# Altium schematic symbol library B105analog_ic.SchLib: 89 symbols
Pins are listed as number, name and electrical type; pins without a type are passive.

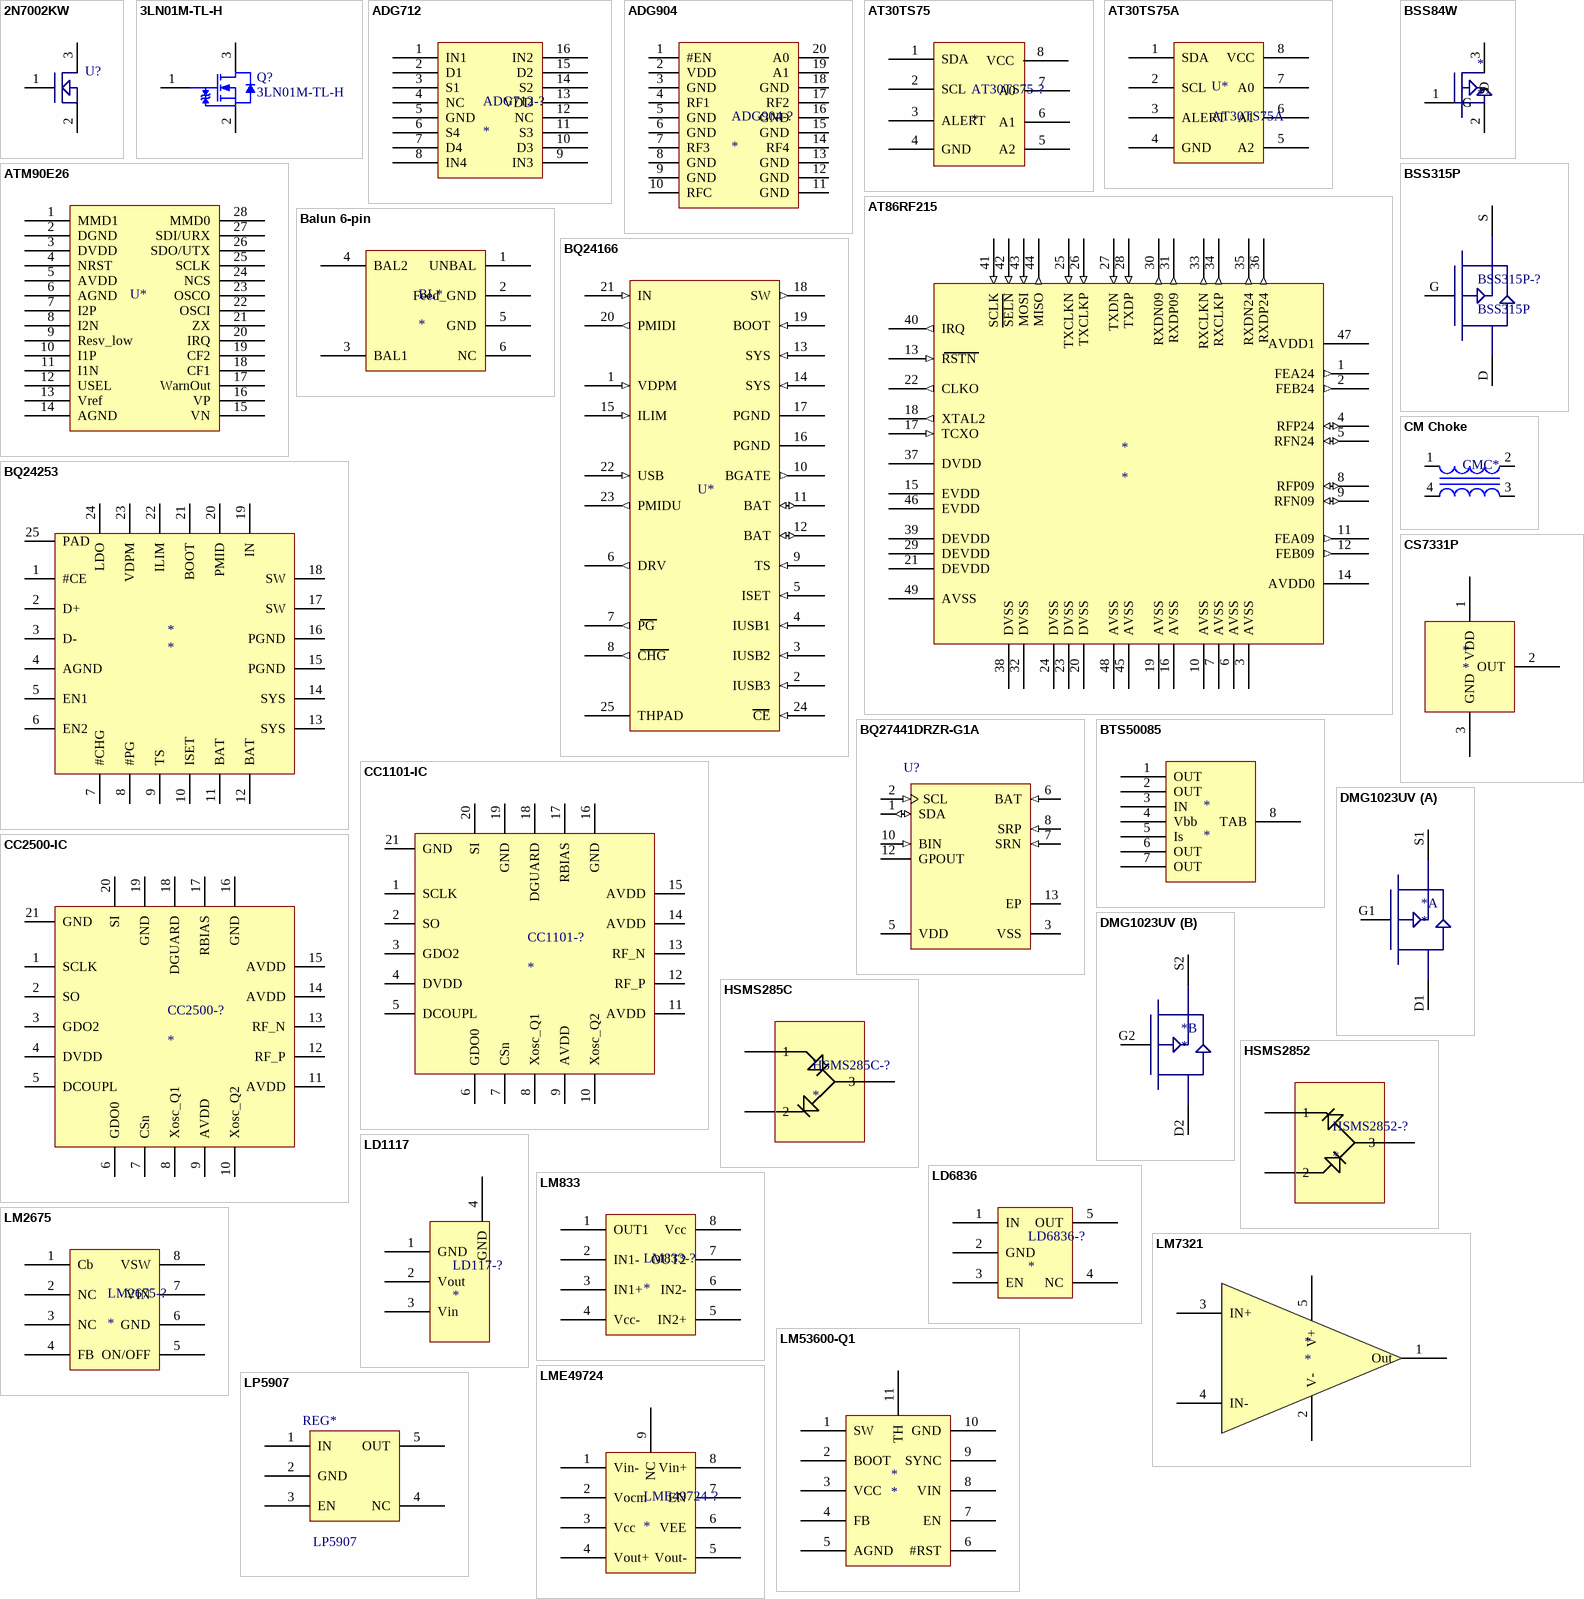
[diagram p0: symbols 2N7002KW to LP5907]

## 2N7002KW
designator U?  (value not drawn)
footprint SOT-23-3 (SOT23, 3-Leads, Body 2,93x2,80mm, Pitch 0,95mm, IPC Medium Density)
footprint SOT-323-3-SC70 (TSOP, 3-Leads, Body 2,03x1,25mm, Pitch 0,65mm, IPC Medium Density)
pins: 1 G, 2 S, 3 D

## 3LN01M-TL-H
designator Q?
MOSFET N-CH 30V 150MA MCP; Manufacturer: ON Semiconductor; FET Type: MOSFET N-Channel, Metal Oxide; FET Feature: Logic Level Gate, 1.5V Drive; Current - Continuous Drain (Id) @ 25°C: 150mA (Ta); Rds On (Max) @ Id, Vgs: 3.7 Ohm @ 80mA, 4V; Gate Charge (Qg) @ Vgs: 1.58nC @ 10V; Input Capacitance (Ciss) @ Vds: 7pF @ 10V; Power - Max: 150mW; Supplier 1: Digi-Key; Supplier Part Number 1: 3LN01M-TL-HOSCT-ND; Manufacturer Part Number: 3LN01M-TL-H; RoHS: RoHS Compliant; Category: Discrete Semiconductor Products; Packaging: Cut Tape (CT); Part Status: Active; Drain to Source Voltage (Vdss): 30V; Vgs(th) (Max) @ Id: -; Operating Temperature: 150°C (TJ); Mounting Type: Surface Mount; Package / Case: SC-70, SOT-323; Supplier Device Package: SC-70 / MCPH3; ComponentLink1URL: http://www.onsemi.com/PowerSolutions/product.do?id=3LN01M&pdf; ComponentLink1Description: http://www.onsemi.com/PowerSolutions/product.do?id=3LN01M&pdf; Supplier 2: Mouser; Supplier Part Number 2: 863-3LN01M-TL-H
footprint SOT323-3L (SOT23, 3-Leads, Body 2x1.25mm, Pitch 0.65mm)
pins: 1 G, 2 S, 3 D

## ADG712
designator ADG712-?
footprint TSSOP-16 (TSOP, 16-Leads, Body 5,00x4,40mm, Pitch 0,65mm, IPC Medium Density)
pins: 1 IN1, 2 D1, 3 S1, 4 NC, 5 GND, 6 S4, 7 D4, 8 IN4, 9 IN3, 10 D3, 11 S3, 12 NC, 13 VDD, 14 S2, 15 D2, 16 IN2

## ADG904
designator ADG904-?
footprint TSSOP-20 (TSOP, 20-Leads, Body 6,50x4,40mm, Pitch 0,65mm, IPC Medium Density)
pins: 1 #EN, 2 VDD, 3 GND, 4 RF1, 5 GND, 6 GND, 7 RF3, 8 GND, 9 GND, 10 RFC, 11 GND, 12 GND, 13 GND, 14 RF4, 15 GND, 16 GND, 17 RF2, 18 GND, 19 A1, 20 A0

## AT30TS75
designator AT30TS75-?
footprint MSOP-8 (TSOP, 8-Leads, Body 3,00x3,00mm, Pitch 0,65mm, IPC Medium Density)
pins: 1 SDA, 2 SCL, 3 ALERT, 4 GND, 5 A2, 6 A1, 7 A0, 8 VCC

## AT30TS75A
designator U*
footprint MSOP-8 (TSOP, 8-Leads, Body 3,00x3,00mm, Pitch 0,65mm, IPC Medium Density)
pins: 1 SDA, 2 SCL, 3 ALERT, 4 GND, 5 A2, 6 A1, 7 A0, 8 VCC

## AT86RF215
designator *
footprint QFN-48 (QFN, 48-Leads, Body 7,00x7,00mm, Pitch 0,50mm, Thermal Pad 5,60x5,60mm, IPC Medium Density)
pins: 1 FEA24 (out), 2 FEB24 (out), 3 AVSS, 4 RFP24 (io), 5 RFN24 (io), 6 AVSS, 7 AVSS, 8 RFP09 (io), 9 RFN09 (io), 10 AVSS, 11 FEA09 (out), 12 FEB09 (out), 13 RSTN (in), 14 AVDD0, 15 EVDD, 16 AVSS, 17 TCXO (in), 18 XTAL2 (out), 19 AVSS, 20 DVSS, 21 DEVDD, 22 CLKO (out), 23 DVSS, 24 DVSS, 25 TXCLKN (in), 26 TXCLKP (in), 27 TXDN (in), 28 TXDP (in), 29 DEVDD, 30 RXDN09 (out), 31 RXDP09 (out), 32 DVSS, 33 RXCLKN (out), 34 RXCLKP (out), 35 RXDN24 (out), 36 RXDP24 (out), 37 DVDD, 38 DVSS, 39 DEVDD, 40 IRQ (out), 41 SCLK (in), 42 SELN (in), 43 MOSI (in), 44 MISO (out), 45 AVSS, 46 EVDD, 47 AVDD1, 48 AVSS, 49 AVSS

## ATM90E26
designator U*, comment U*  (value not drawn)
Single-Phase Energy Metering IC
footprint SSOP-28 (SOP, 28-Leads, Body 10,20x5,29mm, Pitch 0,65mm, IPC Medium Density)
pins: 1 MMD1, 2 DGND, 3 DVDD, 4 NRST, 5 AVDD, 6 AGND, 7 I2P, 8 I2N, 9 Resv_low, 10 I1P, 11 I1N, 12 USEL, 13 Vref, 14 AGND, 15 VN, 16 VP, 17 WarnOut, 18 CF1, 19 CF2, 20 IRQ, 21 ZX, 22 OSCI, 23 OSCO, 24 NCS, 25 SCLK, 26 SDO/UTX, 27 SDI/URX, 28 MMD0

## Balun 6-pin
designator BL*
footprint 2450FB15A050E (Chip Array, Flat, 6-Leads, Pitch 0,65mm,  Body 2,00x1,25mm,  IPC Medium Density)
pins: 1 UNBAL, 2 Feed_GND, 3 BAL1, 4 BAL2, 5 GND, 6 NC

## BQ24166
designator U*  (value not drawn)
footprint QFN-24 (QFN, 24-Leads, Body 4,00x4,00mm, Pitch 0,50mm, Thermal Pad 2,78x2,78mm, IPC Medium Density)
pins: 1 VDPM (in), 2 IUSB3 (in), 3 IUSB2 (in), 4 IUSB1 (in), 5 ISET (in), 6 DRV (out), 7 PG (out), 8 CHG (out), 9 TS (in), 10 BGATE (out), 11 BAT (io), 12 BAT (io), 13 SYS (in), 14 SYS (in), 15 ILIM (in), 16 PGND, 17 PGND, 18 SW (out), 19 BOOT (in), 20 PMIDI (out), 21 IN (in), 22 USB (in), 23 PMIDU (out), 24 CE (in), 25 THPAD

## BQ24253
designator *
footprint QFN-24 (QFN, 24-Leads, Body 4,00x4,00mm, Pitch 0,50mm, Thermal Pad 2,78x2,78mm, IPC Medium Density)
pins: 1 #CE, 2 D+, 3 D-, 4 AGND, 5 EN1, 6 EN2, 7 #CHG, 8 #PG, 9 TS, 10 ISET, 11 BAT, 12 BAT, 13 SYS, 14 SYS, 15 PGND, 16 PGND, 17 SW, 18 SW, 19 IN, 20 PMID, 21 BOOT, 22 ILIM, 23 VDPM, 24 LDO, 25 PAD

## BQ27441DRZR-G1A
designator U?
System-Side Impedance Track Fuel Gauge, -40 to 85 degC, 12-pin SON (DRZ), Green (RoHS & no Sb/Br)
footprint DRZ12-1950X2450TP (SON, 12-Leads, Body 4x2.5mm, Pitch 0.4mm, Thermal Pad 1.95x2.45mm, TI Recommended)
pins: 1 SDA (io) "Slave I2C serial communications data line for communication with system (Master). Open-drain I/O. Use with 10kohm pull-up resistor (typical).", 2 SCL (in) "Slave I2C serial communications clock input line for communication with system (Master). Use with 10kohm pull-up resistor (typical).", 3 VSS (power) "Device ground", 5 VDD (power) "Processor power input. Decouple with minimum 0.1µF ceramic capacitor.", 6 BAT (in) "Cell-voltage measurement input. ADC input. Recommend 4.8V maximum for conversion accuracy.", 7 SRN (in) "Analog input pin connected to the internal coulomb counter where SRN is nearest the Vss connection.Connect to 5-mohm to 20-mohm sense resistor.", 8 SRP (in) "Analog input pin connected to the internal coulomb counter where SRP is nearest the PACK- connection.Connect to 5-mohm to 20-mohm sense resistor.", 10 BIN (in) "Battery-insertion detection input. A logic high to low transition is detected as a battery insertion event.", 12 GPOUT (oc) "General Purpose open-drain output. May be configured as Battery Low indicator or perform SOC interrupt (SOC_INT) function.", 13 EP "Exposed thermal pad"

## BSS84W
designator *
footprint SOT-323-3-SC70 (TSOP, 3-Leads, Body 2,03x1,25mm, Pitch 0,65mm, IPC Medium Density)
pins: 1 G, 2 S, 3 D

## BSS315P
designator BSS315P-?
footprint SOT-23-3 (SOT23, 3-Leads, Body 2,93x2,80mm, Pitch 0,95mm, IPC Medium Density); pin to pad D>3 G>1 S>2
pins: D, G, S

## BTS50085
designator *
Supplier 1: Digi-Key; Supplier Part Number 1: BTS500851TMAATMA1DKR-ND
footprint TO-263-7
pins: 1 OUT, 2 OUT, 3 IN, 4 Vbb, 5 Is, 6 OUT, 7 OUT, 8 TAB

## CC1101-IC
designator CC1101-?
footprint QFN-20 (QFN, 20-Leads, Body 4,00x4,00mm, Pitch 0,50mm, Thermal Pad 2,00x2,00mm, IPC Medium Density)
pins: 1 SCLK, 2 SO, 3 GDO2, 4 DVDD, 5 DCOUPL, 6 GDO0, 7 CSn, 8 Xosc_Q1, 9 AVDD, 10 Xosc_Q2, 11 AVDD, 12 RF_P, 13 RF_N, 14 AVDD, 15 AVDD, 16 GND, 17 RBIAS, 18 DGUARD, 19 GND, 20 SI, 21 GND

## CC2500-IC
designator CC2500-?
footprint QFN-20 (QFN, 20-Leads, Body 4,00x4,00mm, Pitch 0,50mm, Thermal Pad 2,00x2,00mm, IPC Medium Density)
pins: 1 SCLK, 2 SO, 3 GDO2, 4 DVDD, 5 DCOUPL, 6 GDO0, 7 CSn, 8 Xosc_Q1, 9 AVDD, 10 Xosc_Q2, 11 AVDD, 12 RF_P, 13 RF_N, 14 AVDD, 15 AVDD, 16 GND, 17 RBIAS, 18 DGUARD, 19 GND, 20 SI, 21 GND

## CM Choke
designator CMC*  (value not drawn)
footprint DLW21SN900SQ2L (DFN, 4-Leads, Body 1,20x2,00mm, Pitch 1,55mm, 0805, IPC Medium Density)
pins: 1, 2, 3, 4

## CS7331P
designator *
footprint CS7331P
pins: 1 VDD, 2 OUT, 3 GND

## DMG1023UV
designator *
footprint SOT-563 (SOTFL, 6-Leads, Body 1,60x1,63mm, Pitch 0,50mm, IPC Medium Density); pin to pad D1>6 D2>3 G1>2 G2>5 S1>1 S2>4
part A pins: D1, G1, S1
part B pins: D2, G2, S2

## HSMS285C
designator HSMS285C-?
footprint SOT-323-3-SC70 (TSOP, 3-Leads, Body 2,03x1,25mm, Pitch 0,65mm, IPC Medium Density)
pins: 1, 2, 3

## HSMS2852
designator HSMS2852-?
footprint SOT-23-3 (SOT23, 3-Leads, Body 2,93x2,80mm, Pitch 0,95mm, IPC Medium Density)
pins: 1, 2, 3

## LD1117
designator LD117-?
footprint SOT-223 (SOT223, 4-Leads, Body 6,40x7,00mm (avg), Pitch 2,30mm, IPC Medium Density)
pins: 1 GND, 2 Vout, 3 Vin, 4 GND

## LD6836
designator LD6836-?
footprint SOT-753
pins: 1 IN, 2 GND, 3 EN, 4 NC, 5 OUT

## LM833
designator LM833-?
footprint MSOP-8 (TSOP, 8-Leads, Body 3,00x3,00mm, Pitch 0,65mm, IPC Medium Density)
pins: 1 OUT1, 2 IN1-, 3 IN1+, 4 Vcc-, 5 IN2+, 6 IN2-, 7 OUT2, 8 Vcc

## LM2675
designator LM2675-?
footprint SOIC-8 (SOIC, 8-Leads, Body 4,90x3,90mm, Pitch 1,27mm, IPC Medium Density)
pins: 1 Cb, 2 NC, 3 NC, 4 FB, 5 ON/OFF, 6 GND, 7 VIN, 8 VSW

## LM7321
designator *
footprint SOT-23-5 (SOT23, 5-Leads, Body 2,93x2,80mm, Pitch 0,95mm, IPC Medium Density)
pins: 1 Out, 2 V-, 3 IN+, 4 IN-, 5 V+

## LM53600-Q1
designator *
footprint WSON-10 (SON, 10-Leads, Body 3,00x3,00mm, Pitch 0,50mm, Thermal Pad 2,40x1,50mm, IPC Medium Density)
pins: 1 SW, 2 BOOT, 3 VCC, 4 FB, 5 AGND, 6 #RST, 7 EN, 8 VIN, 9 SYNC, 10 GND, 11 TH

## LME49724
designator LME49724-?
footprint SOIC-8-Thermal (SOIC, 8-Leads, Body 4.90x3.90mm, Pitch 1.27mm, Thermal Pad 3.00.2x1.80.2mm, IPC Low Density)
pins: 1 Vin-, 2 Vocm, 3 Vcc, 4 Vout+, 5 Vout-, 6 VEE, 7 EN, 8 Vin+, 9 NC

## LP5907
designator REG*
TI 250mA Ultra-Low-Noise, Low-IQ LDO SOT-23-5
footprint SOT-23-5 (SOT23, 5-Leads, Body 2,93x2,80mm, Pitch 0,95mm, IPC Medium Density)
pins: 1 IN, 2 GND, 3 EN, 4 NC, 5 OUT

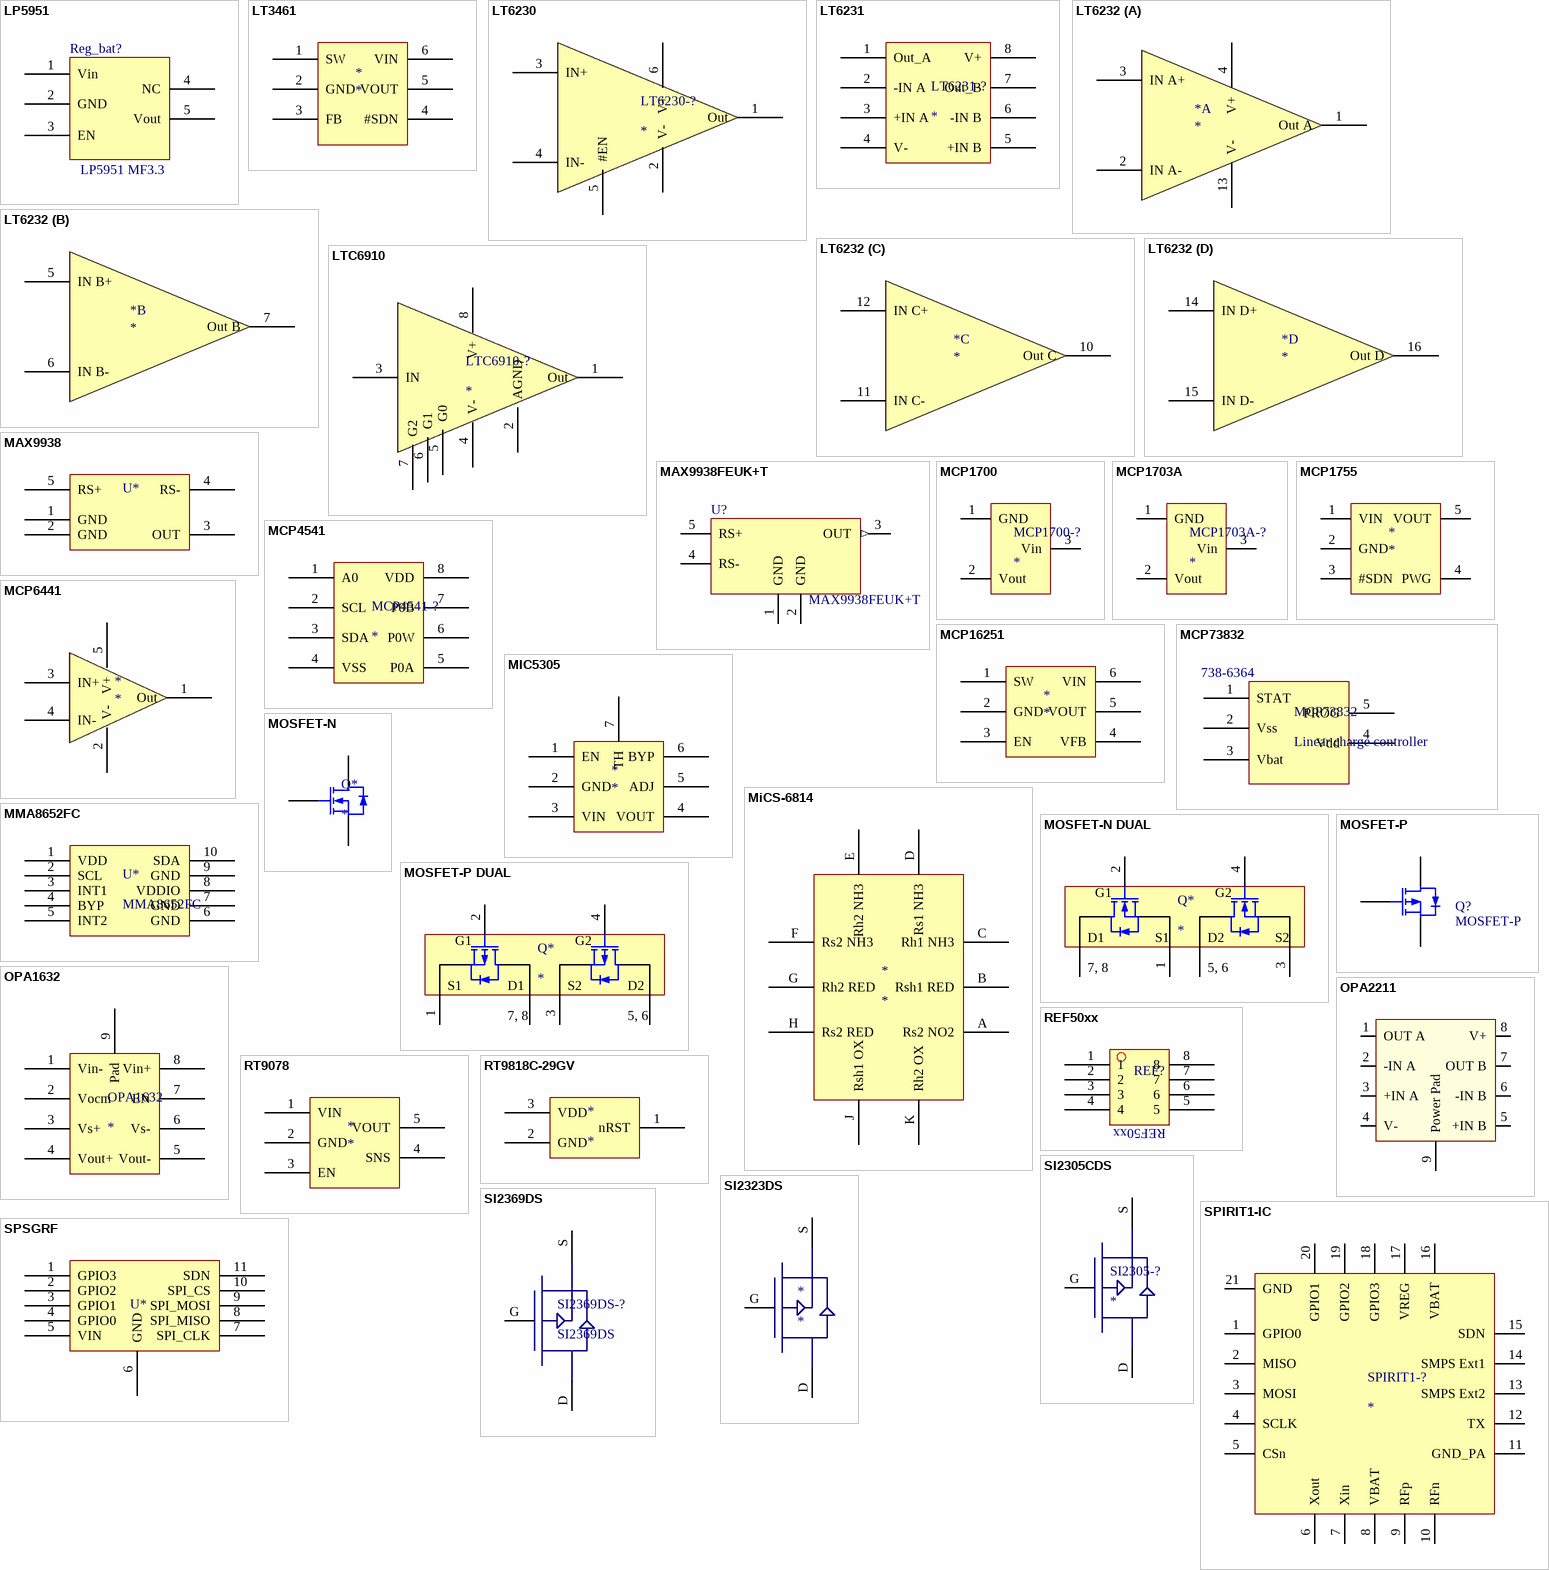
[diagram p1: symbols LP5951 to SPSGRF]

## LP5951
designator Reg_bat?, comment LP5951 MF3.3
TI Lineal Regulator SOT 235
footprint SOT-23-5 (SOT23, 5-Leads, Body 2,93x2,80mm, Pitch 0,95mm, IPC Medium Density)
pins: 1 Vin, 2 GND, 3 EN, 4 NC, 5 Vout

## LT3461
designator *
footprint TSOT-23-6 (SOT23, 6-Leads, Body 2,95x2,80mm, Pitch 0,95mm, IPC Medium Density)
pins: 1 SW, 2 GND, 3 FB, 4 #SDN, 5 VOUT, 6 VIN

## LT6230
designator LT6230-?
footprint TSOT-23-6 (SOT23, 6-Leads, Body 2,95x2,80mm, Pitch 0,95mm, IPC Medium Density)
pins: 1 Out, 2 V-, 3 IN+, 4 IN-, 5 #EN, 6 V+

## LT6231
designator LT6231-?
footprint SOIC-8 (SOIC, 8-Leads, Body 4.90x3.90mm, Pitch 1.27mm, Thermal Pad 3.00.2x1.80.2mm, IPC Low Density)
footprint DFN-8N (3mmx3mm)
pins: 1 Out_A, 2 -IN A, 3 +IN A, 4 V-, 5 +IN B, 6 -IN B, 7 Out_B, 8 V+

## LT6232
designator *
footprint SSOP-16 Flat (TSOP, 16-Leads, Body 4,90x3,90mm, Pitch 0,64mm, IPC Medium Density)
part A pins: 1 Out A, 2 IN A-, 3 IN A+, 4 V+, 13 V-
part B pins: 5 IN B+, 6 IN B-, 7 Out B
part C pins: 10  Out C, 11 IN C-, 12 IN C+
part D pins: 14 IN D+, 15 IN D-, 16 Out D

## LTC6910
designator LTC6910-?
footprint TSOT-23-8 (TSOP, 8-Leads, Body 2,90x1,63mm, Pitch 0,65mm, IPC Medium Density)
pins: 1 Out, 2 AGND, 3 IN, 4 V-, 5 G0, 6 G1, 7 G2, 8 V+

## MAX9938
designator U*  (value not drawn)
footprint SOT-23-5 (SOT23, 5-Leads, Body 2,93x2,80mm, Pitch 0,95mm, IPC Medium Density)
pins: 1 GND, 2 GND, 3 OUT, 4 RS-, 5 RS+

## MAX9938FEUK+T
designator U?
1uA, 4-Bump UCSP/SOT23,  Precision Current-Sense Amplifier; Manufacturer: Maxim Integrated; Amplifier Type: Current Sense; Number of Circuits: 1; -3db Bandwidth: 60kHz; Voltage - Input Offset: 100µV; Current - Supply: 1.1µA; Voltage - Supply, Single/Dual (±): 1.6 V ~ 28 V; Supplier 1: Digi-Key; Supplier Part Number 1: MAX9938FEUK+TCT-ND; Manufacturer Part Number: MAX9938FEUK+T; RoHS: RoHS Compliant; Category: Integrated Circuits (ICs); Packaging: Cut Tape (CT); Output Type: -; Slew Rate: -; Gain Bandwidth Product: -; Current - Input Bias: -; Current - Output / Channel: -; Operating Temperature: -40°C ~ 85°C; Mounting Type: Surface Mount; Package / Case: SC-74A, SOT-753; Supplier Device Package: SOT-23-5; ComponentLink1URL: https://datasheets.maximintegrated.com/en/ds/MAX9938.pdf; ComponentLink1Description: https://datasheets.maximintegrated.com/en/ds/MAX9938.pdf; Supplier 2: Mouser; Supplier Part Number 2: 700-MAX9938FEUK+T; Supplier 3: Farnell; Supplier Part Number 3: 2515331
footprint SOT23-5_L (SOT23, 5-Leads, Body 2.9x1.6mm, Pitch 0.95mm, IPC High Density)
footprint SOT23-5_M (SOT23, 5-Leads, Body 2.9x1.6mm, Pitch 0.95mm, IPC Low Density)
footprint SOT23-5_N (SOT23, 5-Leads, Body 2.9x1.6mm, Pitch 0.95mm, IPC Medium Density)
pins: 1 GND (power), 2 GND (power), 3 OUT (out), 4 RS- (power), 5 RS+ (power)

## MCP1700
designator MCP1700-?
footprint SOT-23-3 (SOT23, 3-Leads, Body 2,93x2,80mm, Pitch 0,95mm, IPC Medium Density)
pins: 1 GND, 2 Vout, 3 Vin

## MCP1703A
designator MCP1703A-?
footprint SOT-23-3 (SOT23, 3-Leads, Body 2,93x2,80mm, Pitch 0,95mm, IPC Medium Density)
pins: 1 GND, 2 Vout, 3 Vin

## MCP1755
designator *
footprint SOT-23-5 (SOT23, 5-Leads, Body 2,93x2,80mm, Pitch 0,95mm, IPC Medium Density)
pins: 1 VIN, 2 GND, 3 #SDN, 4 PWG, 5 VOUT

## MCP4541
designator MCP4541-?
footprint MSOP-8 (TSOP, 8-Leads, Body 3,00x3,00mm, Pitch 0,65mm, IPC Medium Density)
pins: 1 A0, 2 SCL, 3 SDA, 4 VSS, 5 P0A, 6 P0W, 7 P0B, 8 VDD

## MCP6441
designator *
footprint TSSOP-5 (TSSOP, 5-Leads, Body 2,05x1,25mm, Pitch 0,65mm, IPC Medium Density)
pins: 1 Out, 2 V-, 3 IN+, 4 IN-, 5 V+

## MCP16251
designator *
footprint TSOT-23-6 (SOT23, 6-Leads, Body 2,95x2,80mm, Pitch 0,95mm, IPC Medium Density)
pins: 1 SW, 2 GND, 3 EN, 4 VFB, 5 VOUT, 6 VIN

## MCP73832
designator MCP73832, comment Linear charge controller  Supplier Part Number 1: 738-6364
Linear charge controller SOT 235; Supplier 1: RS-Components
footprint SOT-23-5 (SOT23, 5-Leads, Body 2,93x2,80mm, Pitch 0,95mm, IPC Medium Density)
pins: 1 STAT, 2 Vss, 3 Vbat, 4 Vdd, 5 PROG

## MIC5305
designator *
footprint MLF-6PIN-2mmx2mm
pins: 1 EN, 2 GND, 3 VIN, 4 VOUT, 5 ADJ, 6 BYP, 7 TH

## MiCS-6814
designator *
footprint MiCS-6814 IC (PQFN, 10-Leads, Body 5,00x7,00mm, Pitch 2,54mm/1,27mm, IPC Medium Density)
pins: A Rs2 NO2, B Rsh1 RED, C Rh1 NH3, D Rs1 NH3, E Rh2 NH3, F Rs2 NH3, G Rh2 RED, H Rs2 RED, J Rsh1 OX, K Rh2 OX

## MMA8652FC
designator U*
footprint DFN - 10
pins: 1 VDD, 2 SCL, 3 INT1, 4 BYP, 5 INT2, 6 GND, 7 GND, 8 VDDIO, 9 GND, 10 SDA

## MOSFET-N
designator Q*
N-Channel MOSFET
footprint SOT-23-3 (SOT23, 3-Leads, Body 2,93x2,80mm, Pitch 0,95mm, IPC Medium Density)
pins: 1 G, 2 S, 3 D

## MOSFET-N DUAL
designator Q*
N-Channel MOSFET
footprint SOIC-8 (SOIC, 8-Leads, Body 4,90x3,90mm, Pitch 1,27mm, IPC Medium Density)
pins: 1 S1, 2 G1, 3 S2, 4 G2, 5 D2, 6 D2, 7 D1, 8 D1
text: 7, 8; 5, 6

## MOSFET-P
designator Q?
P-Channel MOSFET
footprint SOT-23-3 (SOT23, 3-Leads, Body 2,93x2,80mm, Pitch 0,95mm, IPC Medium Density)
pins: 1 G, 2 S, 3 D

## MOSFET-P DUAL
designator Q*
P-Channel MOSFET
footprint PowerPAK SO-8 (PowerPAK SO-8, 8-Leads, Body 5,15x6,15mm, Pitch 1,27mm, IPC Medium Density)
pins: 1 S1, 2 G1, 3 S2, 4 G2, 5 D2, 6 D2, 7 D1, 8 D1
text: 7, 8; 5, 6

## OPA1632
designator OPA1632
Supplier 1: Digi-Key; Supplier Part Number 1: 296-39099-1-ND
footprint MSOP-8 - Power PAD (TSOP, 8-Leads, Body 3,00x3,00mm, Pitch 0,65mm, IPC Medium Density)
pins: 1 Vin-, 2 Vocm, 3 Vs+, 4 Vout+, 5 Vout-, 6 Vs-, 7 EN, 8 Vin+, 9 Pad

## OPA2211
designator OPA2211-?  (value not drawn)
footprint DFN-8N (3mmx3mm)
footprint SOIC-8-Thermal (SOIC, 8-Leads, Body 4.90x3.90mm, Pitch 1.27mm, Thermal Pad 3.00.2x1.80.2mm, IPC Low Density)
pins: 1 OUT A, 2 -IN A, 3 +IN A, 4 V- (power), 5 +IN B, 6 -IN B, 7 OUT B, 8 V+ (power), 9 Power Pad

## REF50xx
designator REF?  (value not drawn)
IC, VOLTAGE REF, 2.5V, 3PPM DEG
footprint SOIC-8 (SOIC, 8-Leads, Body 4,90x3,90mm, Pitch 1,27mm, IPC Medium Density)
pins: 1, 2, 3, 4, 5, 6, 7, 8

## RT9078
designator *
footprint SOT-23-5 (SOT23, 5-Leads, Body 2,93x2,80mm, Pitch 0,95mm, IPC Medium Density)
pins: 1 VIN, 2 GND, 3 EN, 4 SNS, 5 VOUT

## RT9818C-29GV
designator *
footprint SOT-23-3 (SOT23, 3-Leads, Body 2,93x2,80mm, Pitch 0,95mm, IPC Medium Density)
pins: 1 nRST, 2 GND, 3 VDD

## SI2305CDS
designator SI2305-?
footprint SOT-23-3 (SOT23, 3-Leads, Body 2,93x2,80mm, Pitch 0,95mm, IPC Medium Density); pin to pad D>3 G>1 S>2
pins: D, G, S

## SI2323DS
designator *
footprint SOT-23-3 (SOT23, 3-Leads, Body 2,93x2,80mm, Pitch 0,95mm, IPC Medium Density); pin to pad D>3 G>1 S>2
pins: D, G, S

## SI2369DS
designator SI2369DS-?
footprint SOT-23-3 (SOT23, 3-Leads, Body 2,93x2,80mm, Pitch 0,95mm, IPC Medium Density); pin to pad D>3 G>1 S>2
pins: D, G, S

## SPIRIT1-IC
designator SPIRIT1-?
footprint QFN-20 (QFN, 20-Leads, Body 4,00x4,00mm, Pitch 0,50mm, Thermal Pad 2,00x2,00mm, IPC Medium Density)
pins: 1 GPIO0, 2 MISO, 3 MOSI, 4 SCLK, 5 CSn, 6 Xout, 7 Xin, 8 VBAT, 9 RFp, 10 RFn, 11 GND_PA, 12 TX, 13 SMPS Ext2, 14 SMPS Ext1, 15 SDN, 16 VBAT, 17 VREG, 18 GPIO3, 19 GPIO2, 20 GPIO1, 21 GND

## SPSGRF
designator U*  (value not drawn)
SPIRIT1 MODULE
footprint SPSGRF (SPIRIT1 module)
pins: 1 GPIO3, 2 GPIO2, 3 GPIO1, 4 GPIO0, 5 VIN, 6 GND, 7 SPI_CLK, 8 SPI_MISO, 9 SPI_MOSI, 10 SPI_CS, 11 SDN

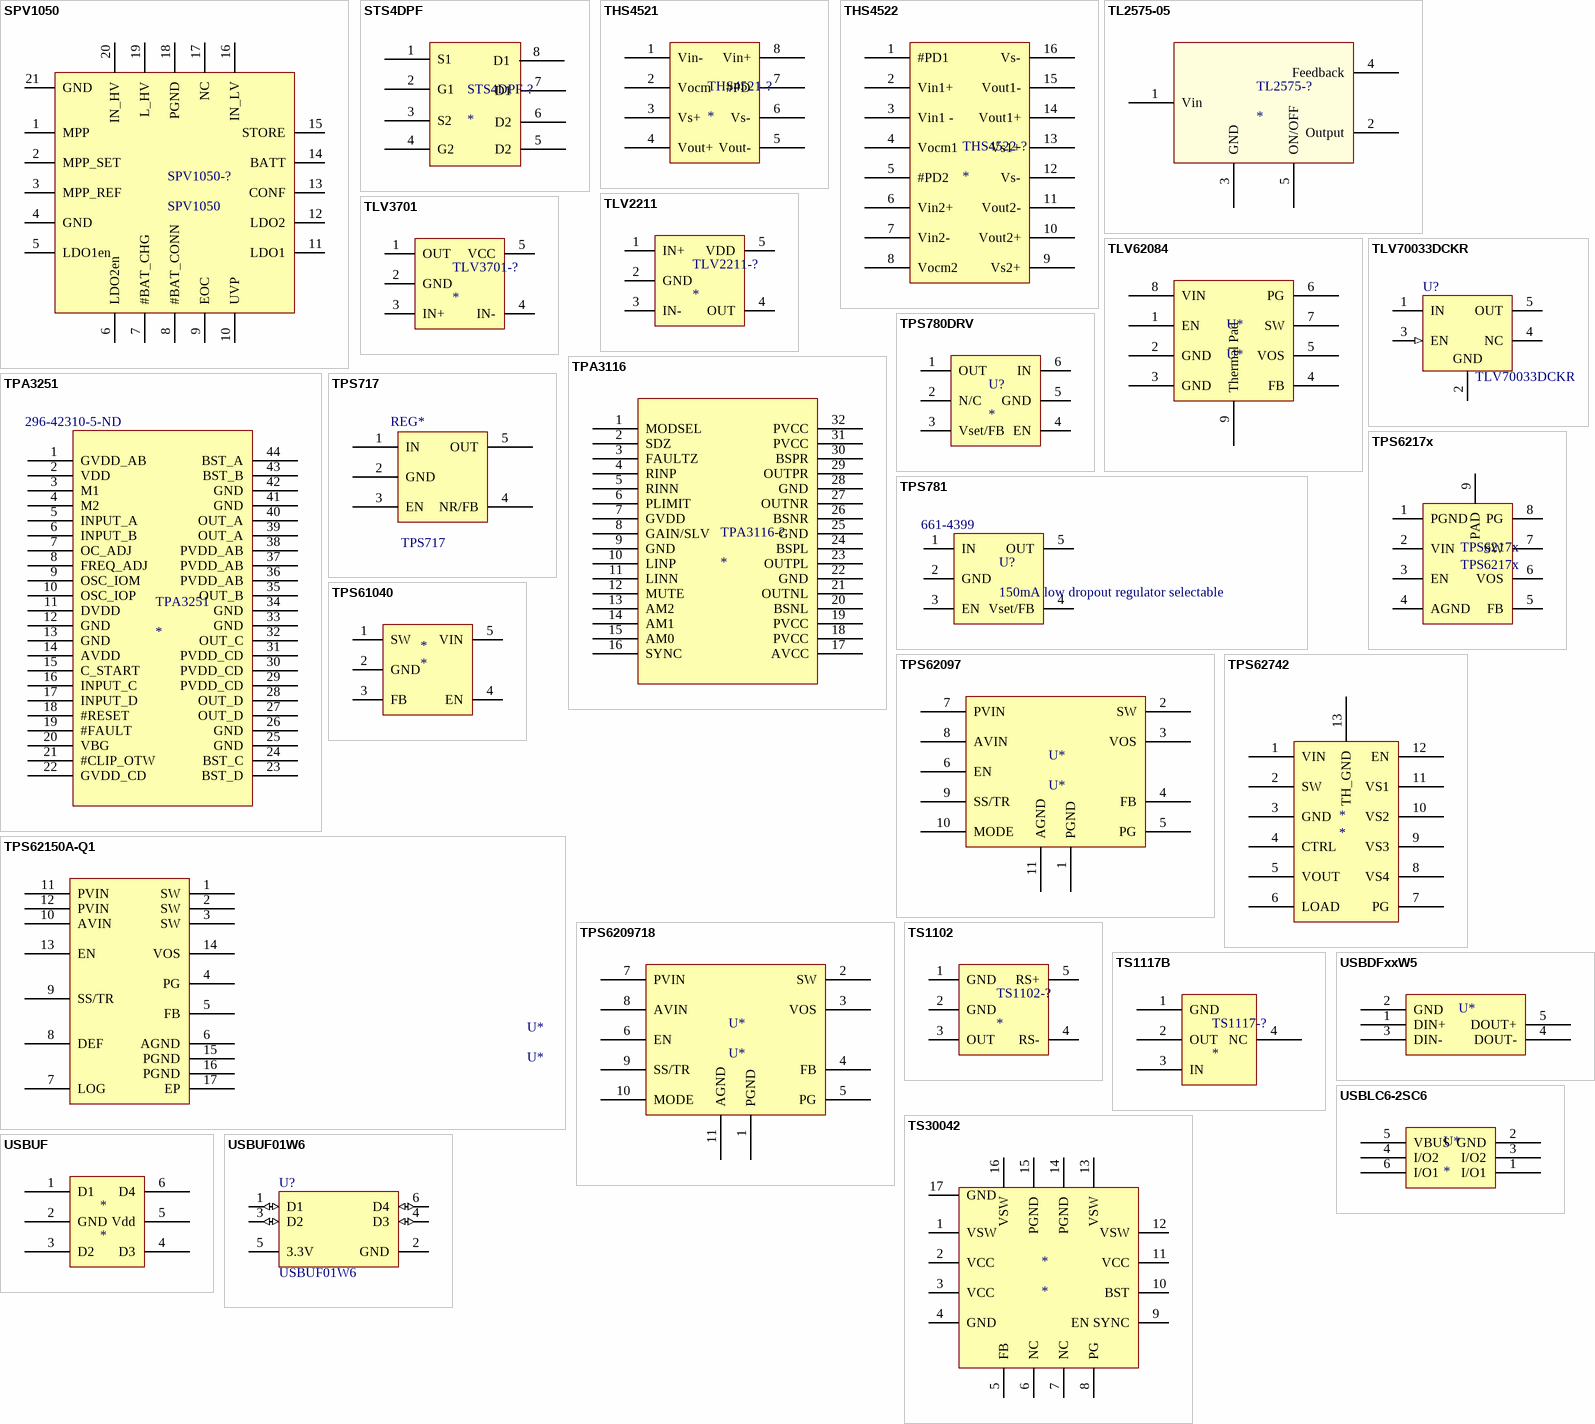
[diagram p2: symbols SPV1050 to USBUF01W6]

## SPV1050
designator SPV1050-?
footprint QFN-20-3x3 (QFN, 20-Leads, Body 3,00x3,00mm, Pitch 0,40mm, Thermal Pad 1,60x1,60mm, IPC Medium Density)
pins: 1 MPP, 2 MPP_SET, 3 MPP_REF, 4 GND, 5 LDO1en, 6 LDO2en, 7 #BAT_CHG, 8 #BAT_CONN, 9 EOC, 10 UVP, 11 LDO1, 12 LDO2, 13 CONF, 14 BATT, 15 STORE, 16 IN_LV, 17 NC, 18 PGND, 19 L_HV, 20 IN_HV, 21 GND

## STS4DPF
designator STS4DPF-?
footprint SOIC-8 (SOIC, 8-Leads, Body 4,90x3,90mm, Pitch 1,27mm, IPC Medium Density)
pins: 1 S1, 2 G1, 3 S2, 4 G2, 5 D2, 6 D2, 7 D1, 8 D1

## THS4521
designator THS4521-?
footprint MSOP-8 (TSOP, 8-Leads, Body 3,00x3,00mm, Pitch 0,65mm, IPC Medium Density)
pins: 1 Vin-, 2 Vocm, 3 Vs+, 4 Vout+, 5 Vout-, 6 Vs-, 7 #PD, 8 Vin+

## THS4522
designator THS4522-?
footprint TSSOP-16 (TSOP, 16-Leads, Body 5,00x4,40mm, Pitch 0,65mm, IPC Medium Density)
pins: 1 #PD1, 2 Vin1+, 3 Vin1 -, 4 Vocm1, 5 #PD2, 6 Vin2+, 7 Vin2-, 8 Vocm2, 9 Vs2+, 10 Vout2+, 11 Vout2-, 12 Vs-, 13 Vs1+, 14 Vout1+, 15 Vout1-, 16 Vs-

## TL2575-05
designator TL2575-?
footprint TO-263-5
pins: 1 Vin, 2 Output, 3 GND, 4 Feedback, 5 ON/OFF

## TLV2211
designator TLV2211-?
footprint SOT-23-5 (SOT23, 5-Leads, Body 2,93x2,80mm, Pitch 0,95mm, IPC Medium Density)
pins: 1 IN+, 2 GND, 3 IN-, 4 OUT, 5 VDD

## TLV3701
designator TLV3701-?
footprint SOT-23-5 (SOT23, 5-Leads, Body 2,93x2,80mm, Pitch 0,95mm, IPC Medium Density)
pins: 1 OUT, 2 GND, 3 IN+, 4 IN-, 5 VCC

## TLV62084
designator U*, comment U*
footprint DSG (S-PWSON-N8) (SON, 8-Leads, Body 2,00x2,00mm, Pitch 0,50mm, Thermal Pad 1,60x0,69mm, IPC Medium Density)
pins: 1 EN, 2 GND, 3 GND, 4 FB, 5 VOS, 6 PG, 7 SW, 8 VIN, 9 Thermal Pad

## TLV70033DCKR
designator U?
Single Output LDO, 200 mA, Fixed 3.3 V Output, 2 to 5.5 V Input, with Low IQ, 5-pin SC70 (DCK), -40 to 125 degC, Green (RoHS & no Sb/Br); Manufacturer: Texas Instruments; Accuracy(%): 2; Fixed Output Options(V): 3.3; Iout(Max)(A): 0.2; Iq(Typ)(mA): 0.03; SubFamily: Single Channel LDO; Vdo(Typ)(mV): 175; Vin(Max)(V): 5.5; Regulator Topology: Positive Fixed; Voltage - Output: 3.3V; Current - Output: 200mA; Voltage - Input: Up to 5.5V; Current - Limit (Min): 220mA; DatasheetVersion: SLVSA00D; PackageVersion: 4093553-3/G; PackageReference: DCK5; PackageDescription: 5-Pin Plastic Small-Outline, Body 2 x 1.25 mm, Pitch 0.65 mm; Supplier 1: Digi-Key; Supplier Part Number 1: 296-32413-1-ND; Supplier 2: Mouser; Supplier Part Number 2: 595-TLV70033DCKR; Eco-Plan: Green (RoHS & no Sb/Br); Vin(Min)(V): 2; Vout Adj(Max)(V): 3.3; Vout Adj(Min)(V): 3.3; Mounting Technology: Surface Mount; Code_JEDEC: MO-203; ComponentLink1Description: Manufacturer URL; ComponentLink1URL: http://www.ti.com/; ComponentLink2Description: Datasheet; ComponentLink2URL: http://www.ti.com/general/docs/lit/getliterature.tsp?genericPartNumber=TLV70033&fileType=pdf; ComponentLink3Description: Package Specification; ComponentLink3URL: http://www.ti.com/litv/pdf/mpds025f; Manufacturer Part Number: TLV70033DCKR; RoHS: RoHS Compliant; Category: Integrated Circuits (ICs); Stock: 23594; Pricing: 1=0.43, 10=0.368, 100=0.2751, 500=0.21616, 1000=0.16703 (EUR); Packaging: Cut Tape (CT); Part Status: Active; Voltage - Dropout (Typical): -; Operating Temperature: -40°C ~ 125°C; Mounting Type: Surface Mount; Package / Case: 5-TSSOP, SC-70-5, SOT-353; Supplier Device Package: SC-70-5; ComponentLink4URL: http://www.ti.com/lit/ds/slvsa00e/slvsa00e.pdf; ComponentLink4Description: http://www.ti.com/lit/ds/slvsa00e/slvsa00e.pdf
footprint SOT323-5L_L (SOT353, 5-Leads, Body 2x1.3mm, Pitch 0.65mm, Lead Span 2.1mm, IPC High Density)
footprint SOT323-5L_M (SOT353, 5-Leads, Body 2x1.3mm, Pitch 0.65mm, Lead Span 2.1mm, IPC Low Density)
footprint SOT323-5L_N (SOT353, 5-Leads, Body 2x1.3mm, Pitch 0.65mm, Lead Span 2.1mm, IPC Medium Density)
pins: 1 IN (power) "Input supply voltage", 2 GND (power) "Ground", 3 EN (in) "Enable input", 4 NC "No connected", 5 OUT (power) "Regulated output voltage"

## TPA3116
designator TPA3116-?
footprint TSSOP-32 (TSOP, 32-Leads, Body 11,00x6,10mm, Pitch 0,65mm, IPC Medium Density)
pins: 1 MODSEL, 2 SDZ, 3 FAULTZ, 4 RINP, 5 RINN, 6 PLIMIT, 7 GVDD, 8 GAIN/SLV, 9 GND, 10 LINP, 11 LINN, 12 MUTE, 13 AM2, 14 AM1, 15 AM0, 16 SYNC, 17 AVCC, 18 PVCC, 19 PVCC, 20 BSNL, 21 OUTNL, 22 GND, 23 OUTPL, 24 BSPL, 25 GND, 26 BSNR, 27 OUTNR, 28 GND, 29 OUTPR, 30 BSPR, 31 PVCC, 32 PVCC

## TPA3251
designator TPA3251  Supplier Part Number 1: 296-42310-5-ND
Supplier 1: Digi-Key
footprint TSSOP-44 (TSSOP, 44-Leads, Body 14,00x6,10mm, Pitch 0,64mm, IPC Medium Density)
pins: 1 GVDD_AB, 2 VDD, 3 M1, 4 M2, 5 INPUT_A, 6 INPUT_B, 7 OC_ADJ, 8 FREQ_ADJ, 9 OSC_IOM, 10 OSC_IOP, 11 DVDD, 12 GND, 13 GND, 14 AVDD, 15 C_START, 16 INPUT_C, 17 INPUT_D, 18 #RESET, 19 #FAULT, 20 VBG, 21 #CLIP_OTW, 22 GVDD_CD, 23 BST_D, 24 BST_C, 25 GND, 26 GND, 27 OUT_D, 28 OUT_D, 29 PVDD_CD, 30 PVDD_CD, 31 PVDD_CD, 32 OUT_C, 33 GND, 34 GND, 35 OUT_B, 36 PVDD_AB, 37 PVDD_AB, 38 PVDD_AB, 39 OUT_A, 40 OUT_A, 41 GND, 42 GND, 43 BST_B, 44 BST_A

## TPS717
designator REG*
TI 150mA Low-Noise, High-BW PSRR, Low-Dropout LDO
footprint SC-70-5 (SC70, 5-Leads, Body 2,00x2,10mm, Pitch 0,65mm, IPC Medium Density)
pins: 1 IN, 2 GND, 3 EN, 4 NR/FB, 5 OUT

## TPS780DRV
designator U?
footprint SON-6
pins: 1 OUT, 2 N/C, 3 Vset/FB, 4 EN, 5 GND, 6 IN, 7 hidden to GND

## TPS781
designator U?, comment 150mA low dropout regulator selectable  Supplier Part Number 1: 661-4399
Supplier 1: RS-Components
footprint SOT-23-5 (SOT23, 5-Leads, Body 2,93x2,80mm, Pitch 0,95mm, IPC Medium Density)
pins: 1 IN, 2 GND, 3 EN, 4 Vset/FB, 5 OUT

## TPS6217x
designator TPS6217x
footprint WSON-8 (SON, 8-Leads, Body 2,10x2,10mm, Pitch 0,50mm, Thermal Pad 1,60x0,88mm, IPC Medium Density)
pins: 1 PGND, 2 VIN, 3 EN, 4 AGND, 5 FB, 6 VOS, 7 SW, 8 PG, 9 PAD

## TPS61040
designator *
footprint SOT-23-5 (SOT23, 5-Leads, Body 2,93x2,80mm, Pitch 0,95mm, IPC Medium Density)
pins: 1 SW, 2 GND, 3 FB, 4 EN, 5 VIN

## TPS62097
designator U*, comment U*
footprint TPS62097
pins: 1 PGND, 2 SW, 3 VOS, 4 FB, 5 PG, 6 EN, 7 PVIN, 8 AVIN, 9 SS/TR, 10 MODE, 11 AGND

## TPS62150A-Q1
designator U*, comment U*
footprint QFN-16 (QFN, 16-Leads, Body 3,00x3,00mm, Pitch 0,50mm, Thermal Pad 1,70x1,70mm, IPC Medium Density)
pins: 1 SW, 2 SW, 3 SW, 4 PG, 5 FB, 6 AGND, 7 LOG, 8 DEF, 9 SS/TR, 10 AVIN, 11 PVIN, 12 PVIN, 13 EN, 14 VOS, 15 PGND, 16 PGND, 17 EP

## TPS62742
designator *
footprint WSON-12-3mmx2mm (SON, 12-Leads, Body 3,00x2,00mm, Pitch 0,50mm, Thermal Pad 2,30x0,70mm, IPC Medium Density)
pins: 1 VIN, 2 SW, 3 GND, 4 CTRL, 5 VOUT, 6 LOAD, 7 PG, 8 VS4, 9 VS3, 10 VS2, 11 VS1, 12 EN, 13 TH_GND

## TPS6209718
designator U*, comment U*
footprint TPS6209718
pins: 1 PGND, 2 SW, 3 VOS, 4 FB, 5 PG, 6 EN, 7 PVIN, 8 AVIN, 9 SS/TR, 10 MODE, 11 AGND

## TS1102
designator TS1102-?
footprint SOT-23-5 (SOT23, 5-Leads, Body 2,93x2,80mm, Pitch 0,95mm, IPC Medium Density)
pins: 1 GND, 2 GND, 3 OUT, 4 RS-, 5 RS+

## TS1117B
designator TS1117-?
footprint SOT-223 (SOT223, 4-Leads, Body 6,40x7,00mm (avg), Pitch 2,30mm, IPC Medium Density)
pins: 1 GND, 2 OUT, 3 IN, 4 NC

## TS30042
designator *
footprint QFN-16 (QFN, 16-Leads, Body 3,00x3,00mm, Pitch 0,50mm, Thermal Pad 1,70x1,70mm, IPC Medium Density)
pins: 1 VSW, 2 VCC, 3 VCC, 4 GND, 5 FB, 6 NC, 7 NC, 8 PG, 9 EN SYNC, 10 BST, 11 VCC, 12 VSW, 13 VSW, 14 PGND, 15 PGND, 16 VSW, 17 GND

## USBDFxxW5
designator U*, comment EMI filter / Line termination  (value not drawn)
footprint SOT323-5L (SOT323, 5-Leads, Body 2,00x2,10mm, Pitch 0,65mm, IPC Medium Density)
pins: 1 DIN+, 2 GND, 3 DIN-, 4 DOUT-, 5 DOUT+

## USBLC6-2SC6
designator U*
footprint USBLC6-2SC6 (SOT23, 6-Leads, Body 2,92x2,80mm, Pitch 0,95mm, IPC Medium Density)
pins: 1 I/O1, 2 GND, 3 I/O2, 4 I/O2, 5 VBUS, 6 I/O1

## USBUF
designator *
footprint SOT323-6 (Footprint not found)
pins: 1 D1, 2 GND, 3 D2, 4 D3, 5 Vdd, 6 D4

## USBUF01W6
designator U?
FILTER RC(PI) 33 OHM/47PF SMD; Manufacturer: STMicroelectronics; Filter Order: 2nd; Number of Channels: 2; Attenuation Value: -28dB @ 900MHz; Resistance - Channel (Ohms): 33; Values: R = 33 Ohm, C = 47pF; ESD Protection: Yes; Supplier 1: Digi-Key; Supplier Part Number 1: 497-3087-1-ND; Manufacturer Part Number: USBUF01W6; RoHS: RoHS Compliant; Category: Filters; Packaging: Cut Tape (CT); Part Status: Active; Type: Low Pass; Technology: RC (Pi); Center / Cutoff Frequency: -; Current: -; Operating Temperature: -40°C ~ 125°C; Applications: USB; Voltage - Rated: -; Mounting Type: Surface Mount; Package / Case: 6-TSSOP, SC-88, SOT-363; Size / Dimension: 0.079" L x 0.049" W (2.00mm x 1.25mm); Height: 0.043" (1.10mm); ComponentLink1URL: http://www.st.com/web/en/resource/technical/document/datasheet/CD00002046.pdf; ComponentLink1Description: http://www.st.com/web/en/resource/technical/document/datasheet/CD00002046.pdf; Supplier 2: Mouser; Supplier Part Number 2: 511-USBUF01W6; Supplier 3: Farnell; Supplier Part Number 3: 2341662
footprint SOT323-6L_L (SOT353, 6-Leads, Body 2x1.3mm, Pitch 0.65mm, Lead Span 2.1mm, IPC High Density)
footprint SOT323-6L_M (SOT353, 6-Leads, Body 2x1.3mm, Pitch 0.65mm, Lead Span 2.1mm, IPC Low Density)
footprint SOT323-6L_N (SOT353, 6-Leads, Body 2x1.3mm, Pitch 0.65mm, Lead Span 2.1mm, IPC Medium Density)
pins: 1 D1 (io) "Master Output, Slave Input. SPI serial data input.", 2 GND (power) "Ground. This pin must be grounded.", 3 D2 (io) "Master Input, Slave Output. SPI serial data output.", 4 D3 (io) "Interrupt 2 Output. INT2 also serves as an input for synchronized sampling.", 5 3.3V (power) "Supply Voltage for Digital I/O.", 6 D4 (io) "Interrupt 1 Output. INT1 also serves as an input for external clocking."